# Altium footprint library PcbLib1.PcbLib: 2 footprints
Each footprint in its own frame and in the unit in brackets; x right, y up, seen from the top. Pads: shape width x height; smd on the part's side, far side on the other; paste and mask are expansions set on the pad; w line width, h text height; cw(c..) or ccw(c..) is an arc to the next point about the centre after c.
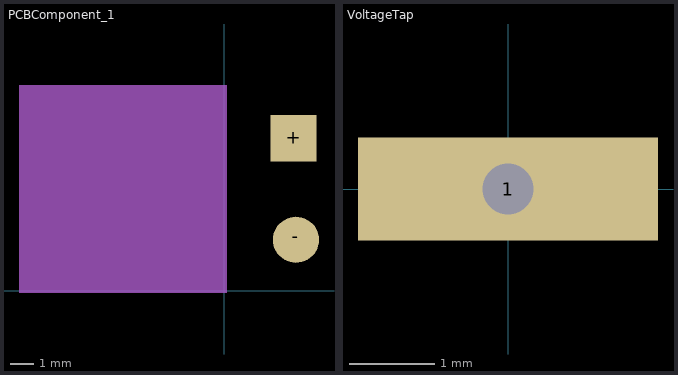
[diagram p0: the footprints below, top view; thin cyan lines are the x and y axes]

## PCBComponent_1 [mm]
pads (2):
  rect 2x2 all layers, no hole: +(3,6.6)
  round 2 all layers, no hole: -(3.1,2.2)
Mechanical 1:
  pour cut-out: 0.1,8.9 -8.9,8.9 -8.9,-0.1 0.1,-0.1

## VoltageTap [mm]
pads (1):
  rect 3.5x1.2 hole 0.6 square: 1(0,0)
Mechanical 1:
  pour cut-out: -1.5,0.3 1.5,0.3 1.5,-0.3 -1.5,-0.3